# EAGLE library part RCM3360 (library rcm3360)
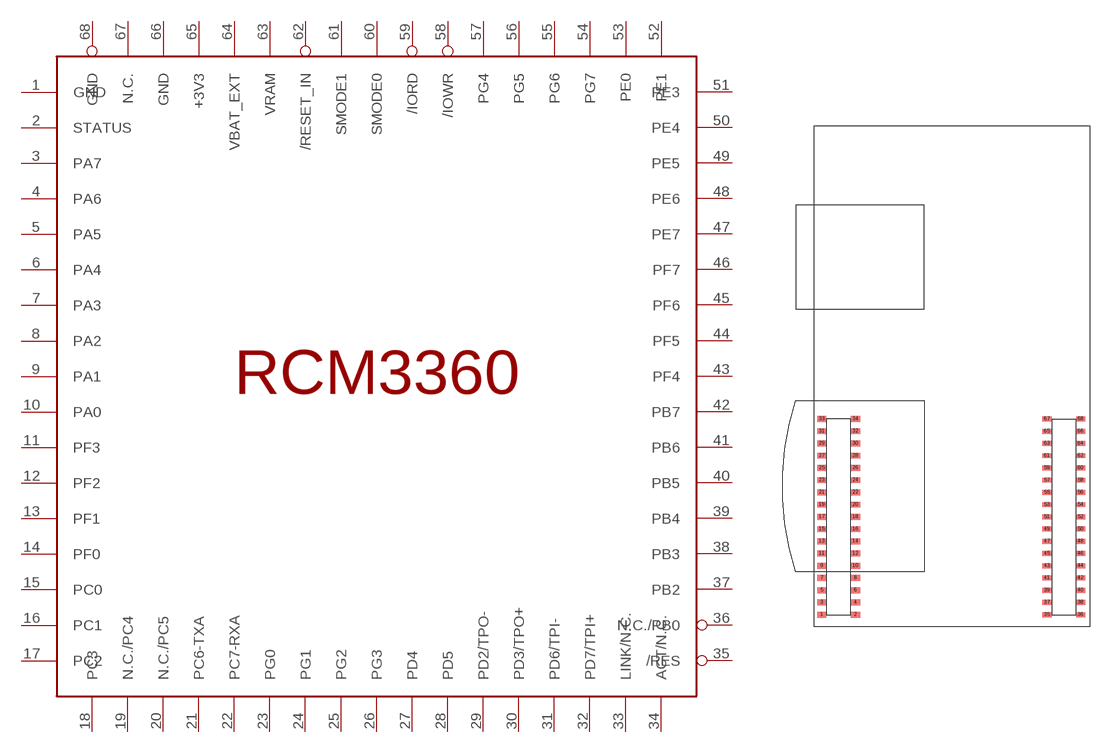
[diagram p0: symbol with the pads of RCM3360; footprint RCM3360]

Designator prefix -

## RCM3360  [RCM3360]
1  GND  sup
2  STATUS
3  PA7
4  PA6
5  PA5
6  PA4
7  PA3
8  PA2
9  PA1
10  PA0
11  PF3
12  PF2
13  PF1
14  PF0
15  PC0
16  PC1
17  PC2
18  PC3
19  N.C./PC4
20  N.C./PC5
21  PC6-TXA
22  PC7-RXA
23  PG0
24  PG1
25  PG2
26  PG3
27  PD4
28  PD5
29  PD2/TPO-
30  PD3/TPO+
31  PD6/TPI-
32  PD7/TPI+
33  LINK/N.C.  out
34  ACT/N.C.  out
35  /RES
36  N.C./PB0
37  PB2
38  PB3
39  PB4
40  PB5
41  PB6
42  PB7
43  PF4
44  PF5
45  PF6
46  PF7
47  PE7
48  PE6
49  PE5
50  PE4
51  PE3
52  PE1
53  PE0
54  PG7
55  PG6
56  PG5
57  PG4
58  /IOWR
59  /IORD
60  SMODE0
61  SMODE1
62  /RESET_IN  in
63  VRAM
64  VBAT_EXT  pwr
65  +3V3  sup
66  GND  sup
67  N.C.  nc
68  GND  sup

## Footprint RCM3360 (pad centres in mm)
smd 1.5 x 0.8: 1 -2.75,0; 2 2.75,0; 3 -2.75,2; 4 2.75,2; 5 -2.75,4; 6 2.75,4; 7 -2.75,6; 8 2.75,6; 9 -2.75,8; 10 2.75,8; 11 -2.75,10; 12 2.75,10; 13 -2.75,12; 14 2.75,12; 15 -2.75,14; 16 2.75,14; 17 -2.75,16; 18 2.75,16; 19 -2.75,18; 20 2.75,18; 21 -2.75,20; 22 2.75,20; 23 -2.75,22; 24 2.75,22; 25 -2.75,24; 26 2.75,24; 27 -2.75,26; 28 2.75,26; 29 -2.75,28; 30 2.75,28; 31 -2.75,30; 32 2.75,30; 33 -2.75,32; 34 2.75,32; 35 34.05,0; 36 39.55,0; 37 34.05,2; 38 39.55,2; 39 34.05,4; 40 39.55,4; 41 34.05,6; 42 39.55,6; 43 34.05,8; 44 39.55,8; 45 34.05,10; 46 39.55,10; 47 34.05,12; 48 39.55,12; 49 34.05,14; 50 39.55,14; 51 34.05,16; 52 39.55,16; 53 34.05,18; 54 39.55,18; 55 34.05,20; 56 39.55,20; 57 34.05,22; 58 39.55,22; 59 34.05,24; 60 39.55,24; 61 34.05,26; 62 39.55,26; 63 34.05,28; 64 39.55,28; 65 34.05,30; 66 39.55,30; 67 34.05,32; 68 39.55,32